# Altium integrated library NSC Power Mgt Voltage Regulator.IntLib: 299 symbols (part 4 of 5)
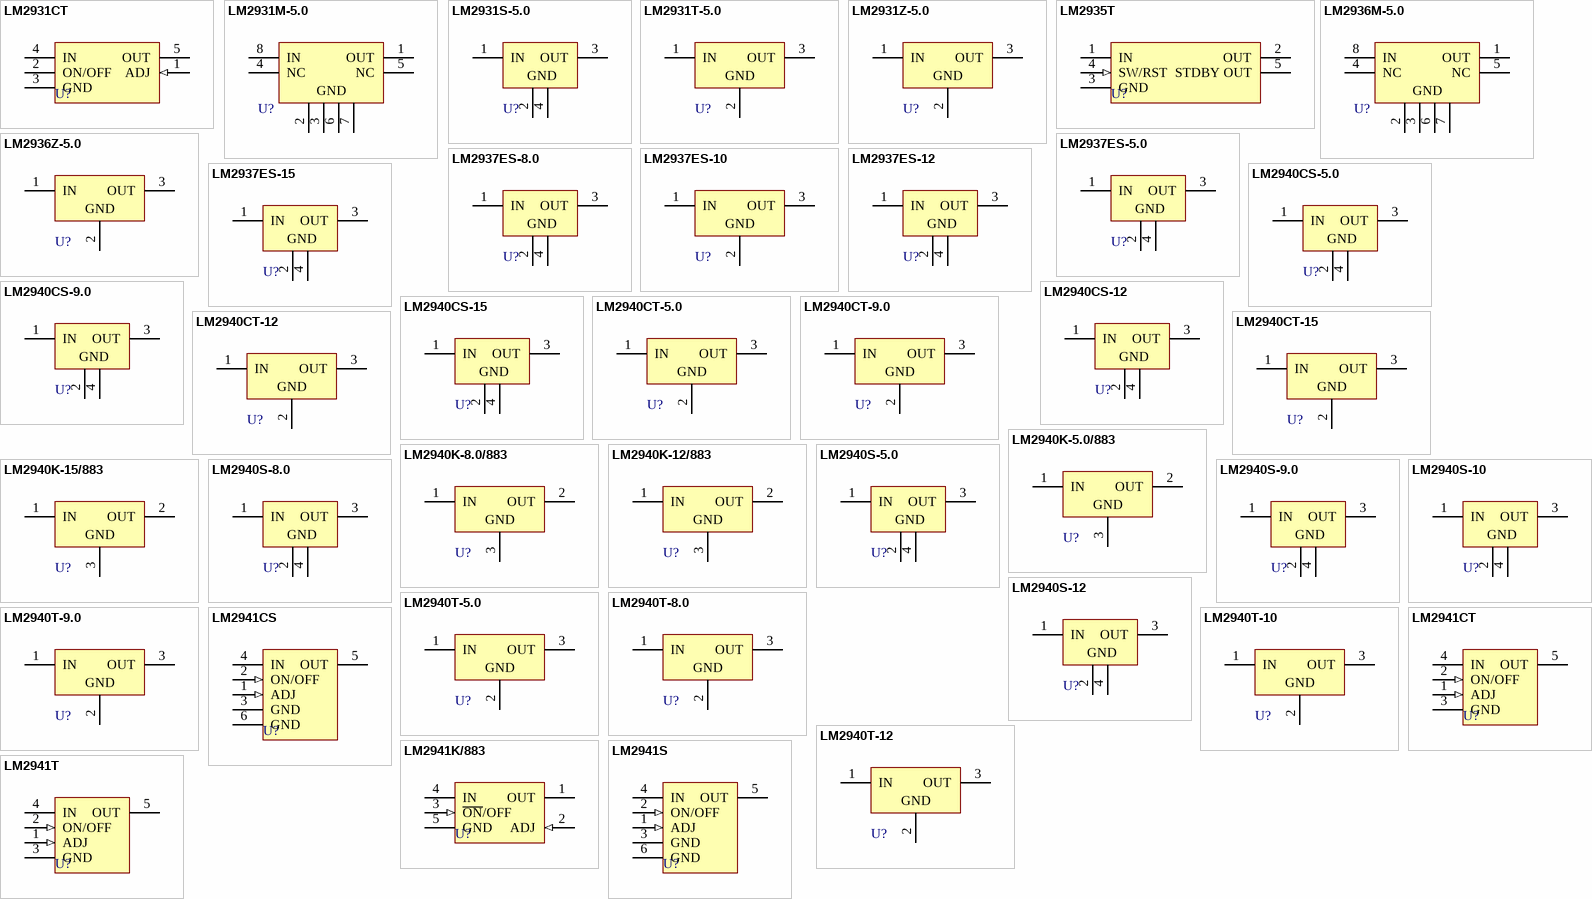
[diagram p10: symbols LM2931CT to LM2941T]

## LM2940T-10
designator U?
1A Low-Dropout Regulator; Note: Tab is connected to GND; Published: 15-Apr-2002; DatasheetVersion: Jun-1999; PackageVersion: 1995; PackageReference: T03B; Publisher: Altium Limited; PackageDescription: TO, Thru-Hole, Vertical, Heatsink Mounted; 3 In-Line Leads; Pitch 2.54 mm; ComponentLink1Description: Manufacturer Link; ComponentLink1URL: http://www.national.com/; ComponentLink2Description: Datasheet; ComponentLink2URL: http://www.national.com/ds.cgi/LM/LM2940.pdf; ComponentLink3Description: URL Link1; ComponentLink3URL: http://www.national.com/pf/LM/LM2940.html
footprint T03B (TO, Thru-Hole, Vertical, Heatsink Mounted; 3 In-Line Leads; Pitch 2.54 mm)
pins: 1 IN (power), 2 GND (power), 3 OUT (power)

## LM2940T-12
designator U?
1A Low-Dropout Regulator; Note: Tab is connected to GND; Published: 15-Apr-2002; DatasheetVersion: Jun-1999; PackageVersion: 1995; PackageReference: T03B; Publisher: Altium Limited; PackageDescription: TO, Thru-Hole, Vertical, Heatsink Mounted; 3 In-Line Leads; Pitch 2.54 mm; ComponentLink1Description: Manufacturer Link; ComponentLink1URL: http://www.national.com/; ComponentLink2Description: Datasheet; ComponentLink2URL: http://www.national.com/ds.cgi/LM/LM2940.pdf; ComponentLink3Description: URL Link1; ComponentLink3URL: http://www.national.com/pf/LM/LM2940.html
footprint T03B (TO, Thru-Hole, Vertical, Heatsink Mounted; 3 In-Line Leads; Pitch 2.54 mm)
pins: 1 IN (power), 2 GND (power), 3 OUT (power)

## LM2941CS
designator U?
1A Dropout Adjustable Regulator; Note: Tab is connected to GND; Published: 15-Apr-2002; DatasheetVersion: Jun-1999; PackageReference: TS5B; Publisher: Altium Limited; PackageDescription: D2-PAK; 5 Leads; Body 14.4 (inc. leads) x 10.4 mm (LxW max); ComponentLink1Description: Manufacturer Link; ComponentLink1URL: http://www.national.com/; ComponentLink2Description: Datasheet; ComponentLink2URL: http://www.national.com/ds.cgi/LM/LM2941.pdf; ComponentLink3Description: URL Link1; ComponentLink3URL: http://www.national.com/pf/LM/LM2941C.html
footprint TS5B (D2-PAK; 5 Leads; Body 14.4 (inc. leads) x 10.4 mm (LxW max))
pins: 1 ADJ (in), 2 ON/OFF (in), 3 GND (power), 4 IN (power), 5 OUT (power), 6 GND (power)

## LM2941CT
designator U?
1A Dropout Adjustable Regulator; Note: Tab is connected to GND; Published: 15-Apr-2002; DatasheetVersion: Jun-1999; PackageVersion: 2000; PackageReference: T05A; Publisher: Altium Limited; PackageDescription: TO, Thru-Hole, Vertical, Heatsink Mounted; 5 In-Line Leads; Pitch 1.70 mm; Code_JEDEC: TS-001-AA; ComponentLink1Description: Manufacturer Link; ComponentLink1URL: http://www.national.com/; ComponentLink2Description: Datasheet; ComponentLink2URL: http://www.national.com/ds.cgi/LM/LM2941.pdf; ComponentLink3Description: URL Link1; ComponentLink3URL: http://www.national.com/pf/LM/LM2941C.html
footprint T05A (TO, Thru-Hole, Vertical, Heatsink Mounted; 5 In-Line Leads; Pitch 1.70 mm)
pins: 1 ADJ (in), 2 ON/OFF (in), 3 GND (power), 4 IN (power), 5 OUT (power)

## LM2941K/883
designator U?
1A Low-Dropout Adjustable Regulator; Note: Case is connected to GND; ComponentAvailability: Obsolete; Published: 15-Apr-2002; DatasheetVersion: Jan-1995; PackageVersion: 2000; PackageReference: K04A; Publisher: Altium Limited; PackageDescription: Oval Flange Mount; 4 Leads; Pin Circle Dia. 11.94 mm; Lead Dia. 1.09 mm (max); ComponentLink1Description: Manufacturer Link; ComponentLink1URL: http://www.national.com/; ComponentLink2Description: Discontinuation Notice; ComponentLink2URL: http://www.national.com/obs/obsolescence.txt; ComponentLink3Description: URL Link1; ComponentLink3URL: http://www.national.com/pf/LM/LM2941.html
footprint K04A (Oval Flange Mount; 4 Leads; Pin Circle Dia. 11.94 mm; Lead Dia. 1.09 mm (max))
pins: 1 OUT (power), 2 ADJ (in), 3 ~{ON}/OFF (in), 4 IN (power), 5 GND (power)

## LM2941S
designator U?
1A Dropout Adjustable Regulator; Note: Tab is connected to GND; Published: 15-Apr-2002; DatasheetVersion: Jun-1999; PackageReference: TS5B; Publisher: Altium Limited; PackageDescription: D2-PAK; 5 Leads; Body 14.4 (inc. leads) x 10.4 mm (LxW max); ComponentLink1Description: Manufacturer Link; ComponentLink1URL: http://www.national.com/; ComponentLink2Description: Datasheet; ComponentLink2URL: http://www.national.com/ds.cgi/LM/LM2941.pdf; ComponentLink3Description: URL Link1; ComponentLink3URL: http://www.national.com/pf/LM/LM2941.html
footprint TS5B (D2-PAK; 5 Leads; Body 14.4 (inc. leads) x 10.4 mm (LxW max))
pins: 1 ADJ (in), 2 ON/OFF (in), 3 GND (power), 4 IN (power), 5 OUT (power), 6 GND (power)

## LM2941T
designator U?
1A Dropout Adjustable Regulator; Note: Tab is connected to GND; Published: 15-Apr-2002; DatasheetVersion: Jun-1999; PackageVersion: 2000; PackageReference: T05A; Publisher: Altium Limited; PackageDescription: TO, Thru-Hole, Vertical, Heatsink Mounted; 5 In-Line Leads; Pitch 1.70 mm; Code_JEDEC: TS-001-AA; ComponentLink1Description: Manufacturer Link; ComponentLink1URL: http://www.national.com/; ComponentLink2Description: Datasheet; ComponentLink2URL: http://www.national.com/ds.cgi/LM/LM2941.pdf; ComponentLink3Description: URL Link1; ComponentLink3URL: http://www.national.com/pf/LM/LM2941.html
footprint T05A (TO, Thru-Hole, Vertical, Heatsink Mounted; 5 In-Line Leads; Pitch 1.70 mm)
pins: 1 ADJ (in), 2 ON/OFF (in), 3 GND (power), 4 IN (power), 5 OUT (power)

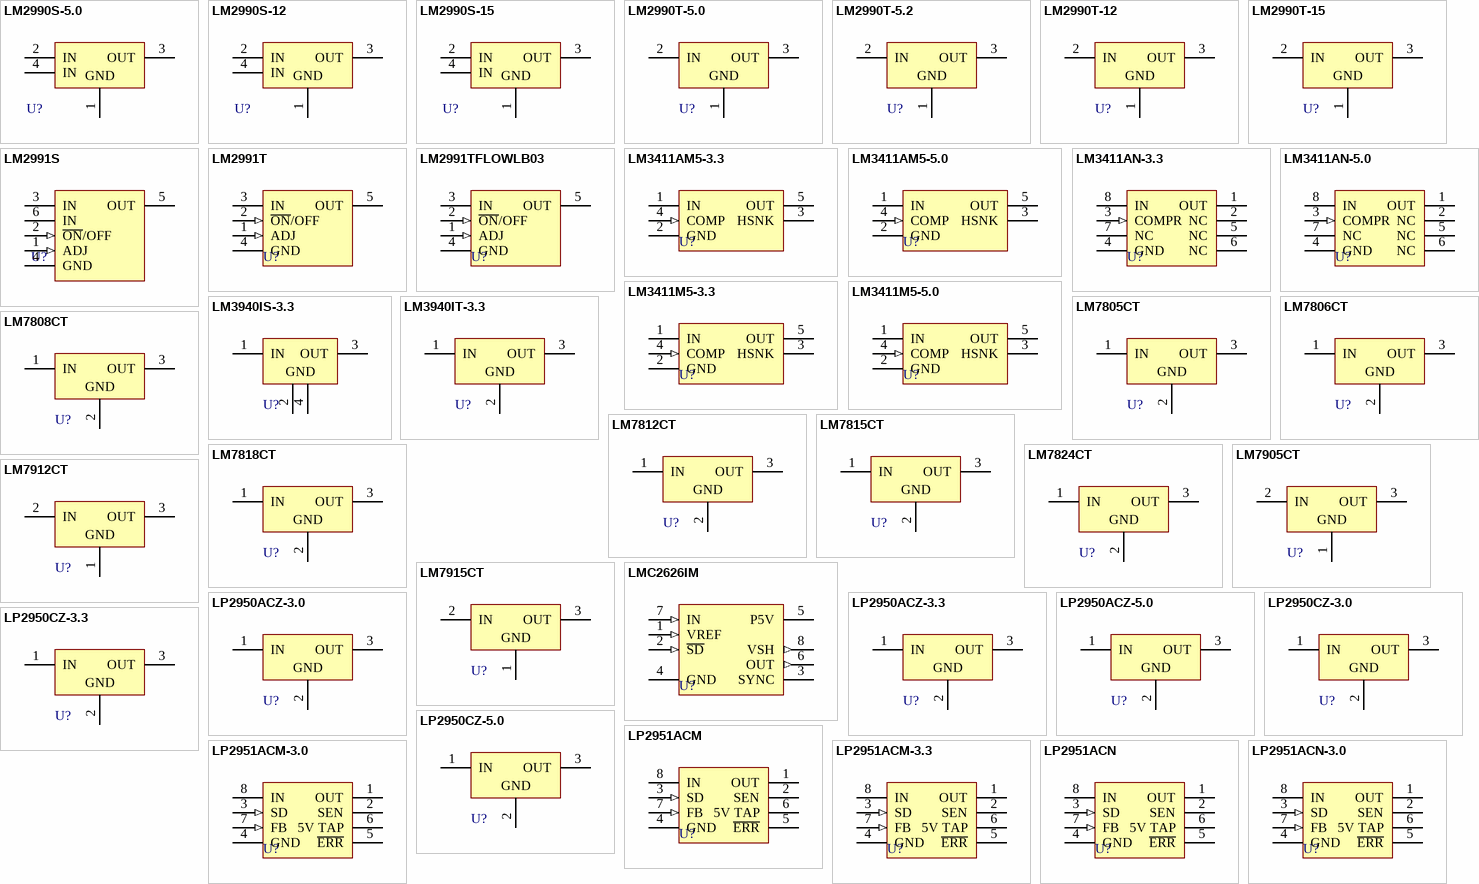
[diagram p5: symbols LM2990S-5.0 to LP2951ACN-3.0]

## LM2990S-5.0
designator U?
Negative Low-Dropout Regulator; Note: Tab is connected to Input; Published: 15-Apr-2002; DatasheetVersion: Jun-1999; PackageReference: TS3B; Publisher: Altium Limited; PackageDescription: D2-PAK; 3 Leads; Body 14.4 (inc. leads) x 10.4 mm (LxW max); ComponentLink1Description: Manufacturer Link; ComponentLink1URL: http://www.national.com/; ComponentLink2Description: Datasheet; ComponentLink2URL: http://www.national.com/ds.cgi/LM/LM2990.pdf; ComponentLink3Description: URL Link1; ComponentLink3URL: http://www.national.com/pf/LM/LM2990.html
footprint TS3B (D2-PAK; 3 Leads; Body 14.4 (inc. leads) x 10.4 mm (LxW max))
pins: 1 GND (power), 2 IN (power), 3 OUT (power), 4 IN (power)

## LM2990S-12
designator U?
Negative Low-Dropout Regulator; Note: Tab is connected to Input; Published: 15-Apr-2002; DatasheetVersion: Jun-1999; PackageReference: TS3B; Publisher: Altium Limited; PackageDescription: D2-PAK; 3 Leads; Body 14.4 (inc. leads) x 10.4 mm (LxW max); ComponentLink1Description: Manufacturer Link; ComponentLink1URL: http://www.national.com/; ComponentLink2Description: Datasheet; ComponentLink2URL: http://www.national.com/ds.cgi/LM/LM2990.pdf; ComponentLink3Description: URL Link1; ComponentLink3URL: http://www.national.com/pf/LM/LM2990.html
footprint TS3B (D2-PAK; 3 Leads; Body 14.4 (inc. leads) x 10.4 mm (LxW max))
pins: 1 GND (power), 2 IN (power), 3 OUT (power), 4 IN (power)

## LM2990S-15
designator U?
Negative Low-Dropout Regulator; Note: Tab is connected to Input; Published: 15-Apr-2002; DatasheetVersion: Jun-1999; PackageReference: TS3B; Publisher: Altium Limited; PackageDescription: D2-PAK; 3 Leads; Body 14.4 (inc. leads) x 10.4 mm (LxW max); ComponentLink1Description: Manufacturer Link; ComponentLink1URL: http://www.national.com/; ComponentLink2Description: Datasheet; ComponentLink2URL: http://www.national.com/ds.cgi/LM/LM2990.pdf; ComponentLink3Description: URL Link1; ComponentLink3URL: http://www.national.com/pf/LM/LM2990.html
footprint TS3B (D2-PAK; 3 Leads; Body 14.4 (inc. leads) x 10.4 mm (LxW max))
pins: 1 GND (power), 2 IN (power), 3 OUT (power), 4 IN (power)

## LM2990T-5.0
designator U?
Negative Low-Dropout Regulator; Note: Tab is connected to Input; Published: 15-Apr-2002; DatasheetVersion: Jun-1999; PackageVersion: 1995; PackageReference: T03B; Publisher: Altium Limited; PackageDescription: TO, Thru-Hole, Vertical, Heatsink Mounted; 3 In-Line Leads; Pitch 2.54 mm; ComponentLink1Description: Manufacturer Link; ComponentLink1URL: http://www.national.com/; ComponentLink2Description: Datasheet; ComponentLink2URL: http://www.national.com/ds.cgi/LM/LM2990.pdf; ComponentLink3Description: URL Link1; ComponentLink3URL: http://www.national.com/pf/LM/LM2990.html
footprint T03B (TO, Thru-Hole, Vertical, Heatsink Mounted; 3 In-Line Leads; Pitch 2.54 mm)
pins: 1 GND (power), 2 IN (power), 3 OUT (power)

## LM2990T-5.2
designator U?
Negative Low-Dropout Regulator; Note: Tab is connected to Input; Published: 15-Apr-2002; DatasheetVersion: Jun-1999; PackageVersion: 1995; PackageReference: T03B; Publisher: Altium Limited; PackageDescription: TO, Thru-Hole, Vertical, Heatsink Mounted; 3 In-Line Leads; Pitch 2.54 mm; ComponentLink1Description: Manufacturer Link; ComponentLink1URL: http://www.national.com/; ComponentLink2Description: Datasheet; ComponentLink2URL: http://www.national.com/ds.cgi/LM/LM2990.pdf; ComponentLink3Description: URL Link1; ComponentLink3URL: http://www.national.com/pf/LM/LM2990.html
footprint T03B (TO, Thru-Hole, Vertical, Heatsink Mounted; 3 In-Line Leads; Pitch 2.54 mm)
pins: 1 GND (power), 2 IN (power), 3 OUT (power)

## LM2990T-12
designator U?
Negative Low-Dropout Regulator; Note: Tab is connected to Input; Published: 15-Apr-2002; DatasheetVersion: Jun-1999; PackageVersion: 1995; PackageReference: T03B; Publisher: Altium Limited; PackageDescription: TO, Thru-Hole, Vertical, Heatsink Mounted; 3 In-Line Leads; Pitch 2.54 mm; ComponentLink1Description: Manufacturer Link; ComponentLink1URL: http://www.national.com/; ComponentLink2Description: Datasheet; ComponentLink2URL: http://www.national.com/ds.cgi/LM/LM2990.pdf; ComponentLink3Description: URL Link1; ComponentLink3URL: http://www.national.com/pf/LM/LM2990.html
footprint T03B (TO, Thru-Hole, Vertical, Heatsink Mounted; 3 In-Line Leads; Pitch 2.54 mm)
pins: 1 GND (power), 2 IN (power), 3 OUT (power)

## LM2990T-15
designator U?
Negative Low-Dropout Regulator; Note: Tab is connected to Input; Published: 15-Apr-2002; DatasheetVersion: Jun-1999; PackageVersion: 1995; PackageReference: T03B; Publisher: Altium Limited; PackageDescription: TO, Thru-Hole, Vertical, Heatsink Mounted; 3 In-Line Leads; Pitch 2.54 mm; ComponentLink1Description: Manufacturer Link; ComponentLink1URL: http://www.national.com/; ComponentLink2Description: Datasheet; ComponentLink2URL: http://www.national.com/ds.cgi/LM/LM2990.pdf; ComponentLink3Description: URL Link1; ComponentLink3URL: http://www.national.com/pf/LM/LM2990.html
footprint T03B (TO, Thru-Hole, Vertical, Heatsink Mounted; 3 In-Line Leads; Pitch 2.54 mm)
pins: 1 GND (power), 2 IN (power), 3 OUT (power)

## LM2991S
designator U?
Negative Low-Dropout Adjustable Regulator; Note: Tab is connected to Input; Published: 15-Apr-2002; DatasheetVersion: May-1999; PackageReference: TS5B; Publisher: Altium Limited; PackageDescription: D2-PAK; 5 Leads; Body 14.4 (inc. leads) x 10.4 mm (LxW max); ComponentLink1Description: Manufacturer Link; ComponentLink1URL: http://www.national.com/; ComponentLink2Description: Datasheet; ComponentLink2URL: http://www.national.com/ds.cgi/LM/LM2991.pdf; ComponentLink3Description: URL Link1; ComponentLink3URL: http://www.national.com/pf/LM/LM2991.html
footprint TS5B (D2-PAK; 5 Leads; Body 14.4 (inc. leads) x 10.4 mm (LxW max))
pins: 1 ADJ (in), 2 ~{ON}/OFF (in), 3 IN (power), 4 GND (power), 5 OUT (power), 6 IN (power)

## LM2991T
designator U?
Negative Low-Dropout Adjustable Regulator; Note: Tab is connected to Input; Published: 15-Apr-2002; DatasheetVersion: May-1999; PackageVersion: 2000; PackageReference: T05A; Publisher: Altium Limited; PackageDescription: TO, Thru-Hole, Vertical, Heatsink Mounted; 5 In-Line Leads; Pitch 1.70 mm; Code_JEDEC: TS-001-AA; ComponentLink1Description: Manufacturer Link; ComponentLink1URL: http://www.national.com/; ComponentLink2Description: Datasheet; ComponentLink2URL: http://www.national.com/ds.cgi/LM/LM2991.pdf; ComponentLink3Description: URL Link1; ComponentLink3URL: http://www.national.com/pf/LM/LM2991.html
footprint T05A (TO, Thru-Hole, Vertical, Heatsink Mounted; 5 In-Line Leads; Pitch 1.70 mm)
pins: 1 ADJ (in), 2 ~{ON}/OFF (in), 3 IN (power), 4 GND (power), 5 OUT (power)

## LM2991TFLOWLB03
designator U?
Negative Low-Dropout Adjustable Regulator; Note: Tab is connected to Input; Published: 15-Apr-2002; DatasheetVersion: May-1999; PackageVersion: 2000; PackageReference: T05D; Publisher: Altium Limited; PackageDescription: TO, Thru-Hole, Vertical, Heatsink Mounted; 5 Bent Staggered Leads; Pitch 1.7 mm; ComponentLink1Description: Manufacturer Link; ComponentLink1URL: http://www.national.com/; ComponentLink2Description: Datasheet; ComponentLink2URL: http://www.national.com/ds.cgi/LM/LM2991.pdf; ComponentLink3Description: URL Link1; ComponentLink3URL: http://www.national.com/pf/LM/LM2991.html
footprint T05D (TO, Thru-Hole, Vertical, Heatsink Mounted; 5 Bent Staggered Leads; Pitch 1.7 mm)
pins: 1 ADJ (in), 2 ~{ON}/OFF (in), 3 IN (power), 4 GND (power), 5 OUT (power)

## LM3411AM5-3.3
designator U?
Precision Secondary Regulator / Driver; Note: Pin 3 NC, connect to board for heat transfer; Published: 15-Apr-2002; DatasheetVersion: Dec-1999; PackageVersion: Aug-1999; PackageReference: MA05B; Publisher: Altium Limited; PackageDescription: SOT-23/SC-74A; 5 Leads; Body 3 x 3 mm, inc. leads (LxW max); ComponentLink1Description: Manufacturer Link; ComponentLink1URL: http://www.national.com/; ComponentLink2Description: Datasheet; ComponentLink2URL: http://www.national.com/ds.cgi/LM/LM3411.pdf; ComponentLink3Description: URL Link1; ComponentLink3URL: http://www.national.com/pf/LM/LM3411.html
footprint MA05B (SOT-23/SC-74A; 5 Leads; Body 3 x 3 mm, inc. leads (LxW max))
pins: 1 IN (power), 2 GND (power), 3 HSNK, 4 COMP (in), 5 OUT (power)

## LM3411AM5-5.0
designator U?
Precision Secondary Regulator / Driver; Note: Pin 3 NC, connect to board for heat transfer; Published: 15-Apr-2002; DatasheetVersion: Dec-1999; PackageVersion: Aug-1999; PackageReference: MA05B; Publisher: Altium Limited; PackageDescription: SOT-23/SC-74A; 5 Leads; Body 3 x 3 mm, inc. leads (LxW max); ComponentLink1Description: Manufacturer Link; ComponentLink1URL: http://www.national.com/; ComponentLink2Description: Datasheet; ComponentLink2URL: http://www.national.com/ds.cgi/LM/LM3411.pdf; ComponentLink3Description: URL Link1; ComponentLink3URL: http://www.national.com/pf/LM/LM3411.html
footprint MA05B (SOT-23/SC-74A; 5 Leads; Body 3 x 3 mm, inc. leads (LxW max))
pins: 1 IN (power), 2 GND (power), 3 HSNK, 4 COMP (in), 5 OUT (power)

## LM3411AN-3.3
designator U?
Precision Secondary Regulation / Driver; ComponentAvailability: Obsolete; Published: 15-Apr-2002; LatestRevisionDate: 06-Jun-2005; LatestRevisionNote: Stylized 3D Model Added.; DatasheetVersion: Jan-1995; PackageVersion: Sep-1997; PackageReference: N08E; Publisher: Altium Limited; PackageDescription: DIP; 8 Leads; Row Spacing 7.62 mm; Pitch 2.54 mm; ComponentLink1Description: Manufacturer Link; ComponentLink1URL: http://www.national.com/; ComponentLink2Description: Discontinuation Notice; ComponentLink2URL: http://www.national.com/obs/obsolescence.txt; ComponentLink3Description: URL Link1; ComponentLink3URL: http://www.national.com/pf/LM/LM3411.html
footprint N08E (DIP; 8 Leads; Row Spacing 7.62 mm; Pitch 2.54 mm)
3D model N08E (DIP; 8 Leads; Row Spacing 7.62 mm; Pitch 2.54 mm)
pins: 1 OUT (power), 2 NC, 3 COMPR (in), 4 GND (power), 5 NC, 6 NC, 7 NC, 8 IN (power)

## LM3411AN-5.0
designator U?
Precision Secondary Regulation / Driver; ComponentAvailability: Obsolete; Published: 15-Apr-2002; LatestRevisionDate: 06-Jun-2005; LatestRevisionNote: Stylized 3D Model Added.; DatasheetVersion: Jan-1995; PackageVersion: Sep-1997; PackageReference: N08E; Publisher: Altium Limited; PackageDescription: DIP; 8 Leads; Row Spacing 7.62 mm; Pitch 2.54 mm; ComponentLink1Description: Manufacturer Link; ComponentLink1URL: http://www.national.com/; ComponentLink2Description: Discontinuation Notice; ComponentLink2URL: http://www.national.com/obs/obsolescence.txt; ComponentLink3Description: URL Link1; ComponentLink3URL: http://www.national.com/pf/LM/LM3411.html
footprint N08E (DIP; 8 Leads; Row Spacing 7.62 mm; Pitch 2.54 mm)
3D model N08E (DIP; 8 Leads; Row Spacing 7.62 mm; Pitch 2.54 mm)
pins: 1 OUT (power), 2 NC, 3 COMPR (in), 4 GND (power), 5 NC, 6 NC, 7 NC, 8 IN (power)

## LM3411M5-3.3
designator U?
Precision Secondary Regulator / Driver; Note: Pin 3 NC, connect to board for heat transfer; Published: 15-Apr-2002; DatasheetVersion: Dec-1999; PackageVersion: Aug-1999; PackageReference: MA05B; Publisher: Altium Limited; PackageDescription: SOT-23/SC-74A; 5 Leads; Body 3 x 3 mm, inc. leads (LxW max); ComponentLink1Description: Manufacturer Link; ComponentLink1URL: http://www.national.com/; ComponentLink2Description: Datasheet; ComponentLink2URL: http://www.national.com/ds.cgi/LM/LM3411.pdf; ComponentLink3Description: URL Link1; ComponentLink3URL: http://www.national.com/pf/LM/LM3411.html
footprint MA05B (SOT-23/SC-74A; 5 Leads; Body 3 x 3 mm, inc. leads (LxW max))
pins: 1 IN (power), 2 GND (power), 3 HSNK, 4 COMP (in), 5 OUT (power)

## LM3411M5-5.0
designator U?
Precision Secondary Regulator / Driver; Note: Pin 3 NC, connect to board for heat transfer; Published: 15-Apr-2002; DatasheetVersion: Dec-1999; PackageVersion: Aug-1999; PackageReference: MA05B; Publisher: Altium Limited; PackageDescription: SOT-23/SC-74A; 5 Leads; Body 3 x 3 mm, inc. leads (LxW max); ComponentLink1Description: Manufacturer Link; ComponentLink1URL: http://www.national.com/; ComponentLink2Description: Datasheet; ComponentLink2URL: http://www.national.com/ds.cgi/LM/LM3411.pdf; ComponentLink3Description: URL Link1; ComponentLink3URL: http://www.national.com/pf/LM/LM3411.html
footprint MA05B (SOT-23/SC-74A; 5 Leads; Body 3 x 3 mm, inc. leads (LxW max))
pins: 1 IN (power), 2 GND (power), 3 HSNK, 4 COMP (in), 5 OUT (power)

## LM3940IS-3.3
designator U?
1A Low-Dropout Regulator For 5V to 3.3V Conversion; Note: Tab is connected to GND; Published: 15-Apr-2002; DatasheetVersion: Apr-1998; PackageReference: TS3B; Publisher: Altium Limited; PackageDescription: D2-PAK; 3 Leads; Body 14.4 (inc. leads) x 10.4 mm (LxW max); ComponentLink1Description: Manufacturer Link; ComponentLink1URL: http://www.national.com/; ComponentLink2Description: Datasheet; ComponentLink2URL: http://www.national.com/ds.cgi/LM/LM3940.pdf; ComponentLink3Description: URL Link1; ComponentLink3URL: http://www.national.com/pf/LM/LM3940.html
footprint TS3B (D2-PAK; 3 Leads; Body 14.4 (inc. leads) x 10.4 mm (LxW max))
pins: 1 IN (power), 2 GND (power), 3 OUT (power), 4 GND (power)

## LM3940IT-3.3
designator U?
1A Low-Dropout Regulator For 5V to 3.3V Conversion; Note: Tab is connected to GND; Published: 15-Apr-2002; DatasheetVersion: Apr-1998; PackageVersion: 1995; PackageReference: T03B; Publisher: Altium Limited; PackageDescription: TO, Thru-Hole, Vertical, Heatsink Mounted; 3 In-Line Leads; Pitch 2.54 mm; ComponentLink1Description: Manufacturer Link; ComponentLink1URL: http://www.national.com/; ComponentLink2Description: Datasheet; ComponentLink2URL: http://www.national.com/ds.cgi/LM/LM3940.pdf; ComponentLink3Description: URL Link1; ComponentLink3URL: http://www.national.com/pf/LM/LM3940.html
footprint T03B (TO, Thru-Hole, Vertical, Heatsink Mounted; 3 In-Line Leads; Pitch 2.54 mm)
pins: 1 IN (power), 2 GND (power), 3 OUT (power)

## LM7805CT
designator U?
Series 3-Terminal Positive Regulator; Note: Tab is connected to GND; Published: 15-Apr-2002; DatasheetVersion: May-1999; PackageVersion: 1995; PackageReference: T03B; Publisher: Altium Limited; PackageDescription: TO, Thru-Hole, Vertical, Heatsink Mounted; 3 In-Line Leads; Pitch 2.54 mm; ComponentLink1Description: Manufacturer Link; ComponentLink1URL: http://www.national.com/; ComponentLink2Description: Datasheet; ComponentLink2URL: http://www.national.com/ds.cgi/LM/LM7512C.pdf; ComponentLink3Description: URL Link1; ComponentLink3URL: http://www.national.com/pf/LM/LM7805C.html
footprint T03B (TO, Thru-Hole, Vertical, Heatsink Mounted; 3 In-Line Leads; Pitch 2.54 mm)
pins: 1 IN (power), 2 GND (power), 3 OUT (power)

## LM7806CT
designator U?
Series 3-Terminal Positive Regulator; Note: Tab is connected to GND; ComponentAvailability: Obsolete; Published: 15-Apr-2002; DatasheetVersion: May-1999; PackageVersion: 1995; PackageReference: T03B; Publisher: Altium Limited; PackageDescription: TO, Thru-Hole, Vertical, Heatsink Mounted; 3 In-Line Leads; Pitch 2.54 mm; ComponentLink1Description: Manufacturer Link; ComponentLink1URL: http://www.national.com/; ComponentLink2Description: Discontinuation Notice; ComponentLink2URL: http://www.national.com/obs/obsolescence.txt
footprint T03B (TO, Thru-Hole, Vertical, Heatsink Mounted; 3 In-Line Leads; Pitch 2.54 mm)
pins: 1 IN (power), 2 GND (power), 3 OUT (power)

## LM7808CT
designator U?
Series 3-Terminal Positive Regulator; Note: Tab is connected to GND; Published: 15-Apr-2002; DatasheetVersion: May-1999; PackageVersion: 1995; PackageReference: T03B; Publisher: Altium Limited; PackageDescription: TO, Thru-Hole, Vertical, Heatsink Mounted; 3 In-Line Leads; Pitch 2.54 mm; ComponentLink1Description: Manufacturer Link; ComponentLink1URL: http://www.national.com/; ComponentLink2Description: Datasheet; ComponentLink2URL: http://www.national.com/ds.cgi/LM/LM340.pdf
footprint T03B (TO, Thru-Hole, Vertical, Heatsink Mounted; 3 In-Line Leads; Pitch 2.54 mm)
pins: 1 IN (power), 2 GND (power), 3 OUT (power)

## LM7812CT
designator U?
Series 3-Terminal Positive Regulator; Note: Tab is connected to GND; Published: 15-Apr-2002; DatasheetVersion: May-1999; PackageVersion: 1995; PackageReference: T03B; Publisher: Altium Limited; PackageDescription: TO, Thru-Hole, Vertical, Heatsink Mounted; 3 In-Line Leads; Pitch 2.54 mm; ComponentLink1Description: Manufacturer Link; ComponentLink1URL: http://www.national.com/; ComponentLink2Description: Datasheet; ComponentLink2URL: http://www.national.com/ds.cgi/LM/LM7512C.pdf
footprint T03B (TO, Thru-Hole, Vertical, Heatsink Mounted; 3 In-Line Leads; Pitch 2.54 mm)
pins: 1 IN (power), 2 GND (power), 3 OUT (power)

## LM7815CT
designator U?
Series 3-Terminal Positive Regulator; Note: Tab is connected to GND; Published: 15-Apr-2002; DatasheetVersion: May-1999; PackageVersion: 1995; PackageReference: T03B; Publisher: Altium Limited; PackageDescription: TO, Thru-Hole, Vertical, Heatsink Mounted; 3 In-Line Leads; Pitch 2.54 mm; ComponentLink1Description: Manufacturer Link; ComponentLink1URL: http://www.national.com/; ComponentLink2Description: Datasheet; ComponentLink2URL: http://www.national.com/ds.cgi/LM/LM7512C.pdf; ComponentLink3Description: URL Link1; ComponentLink3URL: http://www.national.com/pf/LM/LM7815C.html
footprint T03B (TO, Thru-Hole, Vertical, Heatsink Mounted; 3 In-Line Leads; Pitch 2.54 mm)
pins: 1 IN (power), 2 GND (power), 3 OUT (power)

## LM7818CT
designator U?
Series 3-Terminal Positive Regulator; Note: Tab is connected to GND; ComponentAvailability: Obsolete; Published: 15-Apr-2002; DatasheetVersion: May-1999; PackageVersion: 1995; PackageReference: T03B; Publisher: Altium Limited; PackageDescription: TO, Thru-Hole, Vertical, Heatsink Mounted; 3 In-Line Leads; Pitch 2.54 mm; ComponentLink1Description: Manufacturer Link; ComponentLink1URL: http://www.national.com/; ComponentLink2Description: Discontinuation Notice; ComponentLink2URL: http://www.national.com/obs/obsolescence.txt
footprint T03B (TO, Thru-Hole, Vertical, Heatsink Mounted; 3 In-Line Leads; Pitch 2.54 mm)
pins: 1 IN (power), 2 GND (power), 3 OUT (power)

## LM7824CT
designator U?
Series 3-Terminal Positive Regulator; Note: Tab is connected to GND; ComponentAvailability: Obsolete; Published: 15-Apr-2002; DatasheetVersion: May-1999; PackageVersion: 1995; PackageReference: T03B; Publisher: Altium Limited; PackageDescription: TO, Thru-Hole, Vertical, Heatsink Mounted; 3 In-Line Leads; Pitch 2.54 mm; ComponentLink1Description: Manufacturer Link; ComponentLink1URL: http://www.national.com/; ComponentLink2Description: Discontinuation Notice; ComponentLink2URL: http://www.national.com/obs/obsolescence.txt
footprint T03B (TO, Thru-Hole, Vertical, Heatsink Mounted; 3 In-Line Leads; Pitch 2.54 mm)
pins: 1 IN (power), 2 GND (power), 3 OUT (power)

## LM7905CT
designator U?
3-Terminal Negative Regulator; Note: Tab is connected to Input; Published: 15-Apr-2002; DatasheetVersion: Jun-1999; PackageVersion: 1995; PackageReference: T03B; Publisher: Altium Limited; PackageDescription: TO, Thru-Hole, Vertical, Heatsink Mounted; 3 In-Line Leads; Pitch 2.54 mm; ComponentLink1Description: Manufacturer Link; ComponentLink1URL: http://www.national.com/; ComponentLink2Description: Datasheet; ComponentLink2URL: http://www.national.com/ds.cgi/LM/LM7905.pdf; ComponentLink3Description: URL Link1; ComponentLink3URL: http://www.national.com/pf/LM/LM7905.html
footprint T03B (TO, Thru-Hole, Vertical, Heatsink Mounted; 3 In-Line Leads; Pitch 2.54 mm)
pins: 1 GND (power), 2 IN (power), 3 OUT (power)

## LM7912CT
designator U?
3-Terminal Negative Regulator; Note: Tab is connected to Input; Published: 15-Apr-2002; DatasheetVersion: Jun-1999; PackageVersion: 1995; PackageReference: T03B; Publisher: Altium Limited; PackageDescription: TO, Thru-Hole, Vertical, Heatsink Mounted; 3 In-Line Leads; Pitch 2.54 mm; ComponentLink1Description: Manufacturer Link; ComponentLink1URL: http://www.national.com/; ComponentLink2Description: Datasheet; ComponentLink2URL: http://www.national.com/ds.cgi/LM/LM7905.pdf; ComponentLink3Description: URL Link1; ComponentLink3URL: http://www.national.com/pf/LM/LM7912.html
footprint T03B (TO, Thru-Hole, Vertical, Heatsink Mounted; 3 In-Line Leads; Pitch 2.54 mm)
pins: 1 GND (power), 2 IN (power), 3 OUT (power)

## LM7915CT
designator U?
3-Terminal Negative Regulator; Note: Tab is connected to Input; Published: 15-Apr-2002; DatasheetVersion: Jun-1999; PackageVersion: 1995; PackageReference: T03B; Publisher: Altium Limited; PackageDescription: TO, Thru-Hole, Vertical, Heatsink Mounted; 3 In-Line Leads; Pitch 2.54 mm; ComponentLink1Description: Manufacturer Link; ComponentLink1URL: http://www.national.com/; ComponentLink2Description: Datasheet; ComponentLink2URL: http://www.national.com/ds.cgi/LM/LM7905.pdf; ComponentLink3Description: URL Link1; ComponentLink3URL: http://www.national.com/pf/LM/LM7915.html
footprint T03B (TO, Thru-Hole, Vertical, Heatsink Mounted; 3 In-Line Leads; Pitch 2.54 mm)
pins: 1 GND (power), 2 IN (power), 3 OUT (power)

## LMC2626IM
designator U?
CMOS LDOR/Buffer Chip for Row Inversion Flat Panel Display Systems; ComponentAvailability: Obsolete; Published: 15-Apr-2002; LatestRevisionDate: 13-Apr-2006; LatestRevisionNote: IPC-7351 Footprint Added.; DatasheetVersion: Nov-1995; PackageVersion: Sep-1997; PackageReference: M08A; Publisher: Altium Limited; PackageDescription: 8-Pin Small Outline Integrated Circuit 1.27 mm Pitch; Code_JEDEC: MS-012-AA; Code_IPC: SOIC127P600-8; ComponentLink1Description: Manufacturer Link; ComponentLink1URL: http://www.national.com/; ComponentLink2Description: Discontinuation Notice; ComponentLink2URL: http://www.national.com/obs/obsolescence.txt; ComponentLink3Description: URL Link1; ComponentLink3URL: http://www.national.com/pf/LM/LMC2626.html
footprint M08A_N (SOIC, 8-Leads, Body 4.9x3.9mm, Pitch 1.27mm, IPC Medium Density)
footprint M08A_L (SOIC, 8-Leads, Body 4.9x3.9mm, Pitch 1.27mm, IPC High Density)
footprint M08A_M (SOIC, 8-Leads, Body 4.9x3.9mm, Pitch 1.27mm, IPC Low Density)
3D model M08A (8-Pin Small Outline Integrated Circuit 1.27 mm Pitch)
pins: 1 VREF (in), 2 ~{SD} (in), 3 SYNC, 4 GND (power), 5 P5V (power), 6 OUT (out), 7 IN (in), 8 VSH (out)

## LP2950ACZ-3.0
designator U?
Series of Adjustable Micropower Voltage Regulator; Published: 15-Apr-2002; DatasheetVersion: May-1999; PackageVersion: 2000; PackageReference: Z03A; Publisher: Altium Limited; PackageDescription: TO, Flat Index; 3 In-Line, Axial Leads; Body Dia. 4.6mm; Leads 0.53 x 0.39 mm (max); ComponentLink1Description: Manufacturer Link; ComponentLink1URL: http://www.national.com/; ComponentLink2Description: Datasheet; ComponentLink2URL: http://www.national.com/ds.cgi/LP/LP2950.pdf; ComponentLink3Description: URL Link1; ComponentLink3URL: http://www.national.com/pf/LP/LP2950.html
footprint Z03A (TO, Flat Index; 3 In-Line, Axial Leads; Body Dia. 4.6mm; Leads 0.53 x 0.39 mm (max))
pins: 1 IN (power), 2 GND (power), 3 OUT (power)

## LP2950ACZ-3.3
designator U?
Series of Adjustable Micropower Voltage Regulator; Published: 15-Apr-2002; DatasheetVersion: May-1999; PackageVersion: 2000; PackageReference: Z03A; Publisher: Altium Limited; PackageDescription: TO, Flat Index; 3 In-Line, Axial Leads; Body Dia. 4.6mm; Leads 0.53 x 0.39 mm (max); ComponentLink1Description: Manufacturer Link; ComponentLink1URL: http://www.national.com/; ComponentLink2Description: Datasheet; ComponentLink2URL: http://www.national.com/ds.cgi/LP/LP2950.pdf; ComponentLink3Description: URL Link1; ComponentLink3URL: http://www.national.com/pf/LP/LP2950.html
footprint Z03A (TO, Flat Index; 3 In-Line, Axial Leads; Body Dia. 4.6mm; Leads 0.53 x 0.39 mm (max))
pins: 1 IN (power), 2 GND (power), 3 OUT (power)

## LP2950ACZ-5.0
designator U?
Series of Adjustable Micropower Voltage Regulator; Published: 15-Apr-2002; DatasheetVersion: May-1999; PackageVersion: 2000; PackageReference: Z03A; Publisher: Altium Limited; PackageDescription: TO, Flat Index; 3 In-Line, Axial Leads; Body Dia. 4.6mm; Leads 0.53 x 0.39 mm (max); ComponentLink1Description: Manufacturer Link; ComponentLink1URL: http://www.national.com/; ComponentLink2Description: Datasheet; ComponentLink2URL: http://www.national.com/ds.cgi/LP/LP2950.pdf; ComponentLink3Description: URL Link1; ComponentLink3URL: http://www.national.com/pf/LP/LP2950.html
footprint Z03A (TO, Flat Index; 3 In-Line, Axial Leads; Body Dia. 4.6mm; Leads 0.53 x 0.39 mm (max))
pins: 1 IN (power), 2 GND (power), 3 OUT (power)

## LP2950CZ-3.0
designator U?
Series of Adjustable Micropower Voltage Regulator; Published: 15-Apr-2002; DatasheetVersion: May-1999; PackageVersion: 2000; PackageReference: Z03A; Publisher: Altium Limited; PackageDescription: TO, Flat Index; 3 In-Line, Axial Leads; Body Dia. 4.6mm; Leads 0.53 x 0.39 mm (max); ComponentLink1Description: Manufacturer Link; ComponentLink1URL: http://www.national.com/; ComponentLink2Description: Datasheet; ComponentLink2URL: http://www.national.com/ds.cgi/LP/LP2950.pdf; ComponentLink3Description: URL Link1; ComponentLink3URL: http://www.national.com/pf/LP/LP2950.html
footprint Z03A (TO, Flat Index; 3 In-Line, Axial Leads; Body Dia. 4.6mm; Leads 0.53 x 0.39 mm (max))
pins: 1 IN (power), 2 GND (power), 3 OUT (power)

## LP2950CZ-3.3
designator U?
Series of Adjustable Micropower Voltage Regulator; Published: 15-Apr-2002; DatasheetVersion: May-1999; PackageVersion: 2000; PackageReference: Z03A; Publisher: Altium Limited; PackageDescription: TO, Flat Index; 3 In-Line, Axial Leads; Body Dia. 4.6mm; Leads 0.53 x 0.39 mm (max); ComponentLink1Description: Manufacturer Link; ComponentLink1URL: http://www.national.com/; ComponentLink2Description: Datasheet; ComponentLink2URL: http://www.national.com/ds.cgi/LP/LP2950.pdf; ComponentLink3Description: URL Link1; ComponentLink3URL: http://www.national.com/pf/LP/LP2950.html
footprint Z03A (TO, Flat Index; 3 In-Line, Axial Leads; Body Dia. 4.6mm; Leads 0.53 x 0.39 mm (max))
pins: 1 IN (power), 2 GND (power), 3 OUT (power)

## LP2950CZ-5.0
designator U?
Series of Adjustable Micropower Voltage Regulator; Published: 15-Apr-2002; DatasheetVersion: May-1999; PackageVersion: 2000; PackageReference: Z03A; Publisher: Altium Limited; PackageDescription: TO, Flat Index; 3 In-Line, Axial Leads; Body Dia. 4.6mm; Leads 0.53 x 0.39 mm (max); ComponentLink1Description: Manufacturer Link; ComponentLink1URL: http://www.national.com/; ComponentLink2Description: Datasheet; ComponentLink2URL: http://www.national.com/ds.cgi/LP/LP2950.pdf; ComponentLink3Description: URL Link1; ComponentLink3URL: http://www.national.com/pf/LP/LP2950.html
footprint Z03A (TO, Flat Index; 3 In-Line, Axial Leads; Body Dia. 4.6mm; Leads 0.53 x 0.39 mm (max))
pins: 1 IN (power), 2 GND (power), 3 OUT (power)

## LP2951ACM
designator U?
Series of Adjustable Micropower Voltage Regulator; Published: 15-Apr-2002; LatestRevisionDate: 13-Apr-2006; LatestRevisionNote: IPC-7351 Footprint Added.; DatasheetVersion: May-1999; PackageVersion: Sep-1997; PackageReference: M08A; Publisher: Altium Limited; PackageDescription: 8-Pin Small Outline Integrated Circuit 1.27 mm Pitch; Code_JEDEC: MS-012-AA; Code_IPC: SOIC127P600-8; ComponentLink1Description: Manufacturer Link; ComponentLink1URL: http://www.national.com/; ComponentLink2Description: Datasheet; ComponentLink2URL: http://www.national.com/ds.cgi/LP/LP2950.pdf; ComponentLink3Description: URL Link1; ComponentLink3URL: http://www.national.com/pf/LP/LP2951.html
footprint M08A_N (SOIC, 8-Leads, Body 4.9x3.9mm, Pitch 1.27mm, IPC Medium Density)
footprint M08A_L (SOIC, 8-Leads, Body 4.9x3.9mm, Pitch 1.27mm, IPC High Density)
footprint M08A_M (SOIC, 8-Leads, Body 4.9x3.9mm, Pitch 1.27mm, IPC Low Density)
3D model M08A (8-Pin Small Outline Integrated Circuit 1.27 mm Pitch)
pins: 1 OUT (power), 2 SEN, 3 SD (in), 4 GND (power), 5 ~{ERR} (oc), 6 5V TAP, 7 FB (in), 8 IN (power)

## LP2951ACM-3.0
designator U?
Series of Adjustable Micropower Voltage Regulator; Published: 15-Apr-2002; LatestRevisionDate: 13-Apr-2006; LatestRevisionNote: IPC-7351 Footprint Added.; DatasheetVersion: May-1999; PackageVersion: Sep-1997; PackageReference: M08A; Publisher: Altium Limited; PackageDescription: 8-Pin Small Outline Integrated Circuit 1.27 mm Pitch; Code_JEDEC: MS-012-AA; Code_IPC: SOIC127P600-8; ComponentLink1Description: Manufacturer Link; ComponentLink1URL: http://www.national.com/; ComponentLink2Description: Datasheet; ComponentLink2URL: http://www.national.com/ds.cgi/LP/LP2950.pdf; ComponentLink3Description: URL Link1; ComponentLink3URL: http://www.national.com/pf/LP/LP2951.html
footprint M08A_N (SOIC, 8-Leads, Body 4.9x3.9mm, Pitch 1.27mm, IPC Medium Density)
footprint M08A_L (SOIC, 8-Leads, Body 4.9x3.9mm, Pitch 1.27mm, IPC High Density)
footprint M08A_M (SOIC, 8-Leads, Body 4.9x3.9mm, Pitch 1.27mm, IPC Low Density)
3D model M08A (8-Pin Small Outline Integrated Circuit 1.27 mm Pitch)
pins: 1 OUT (power), 2 SEN, 3 SD (in), 4 GND (power), 5 ~{ERR} (oc), 6 5V TAP, 7 FB (in), 8 IN (power)

## LP2951ACM-3.3
designator U?
Series of Adjustable Micropower Voltage Regulator; Published: 15-Apr-2002; LatestRevisionDate: 13-Apr-2006; LatestRevisionNote: IPC-7351 Footprint Added.; DatasheetVersion: May-1999; PackageVersion: Sep-1997; PackageReference: M08A; Publisher: Altium Limited; PackageDescription: 8-Pin Small Outline Integrated Circuit 1.27 mm Pitch; Code_JEDEC: MS-012-AA; Code_IPC: SOIC127P600-8; ComponentLink1Description: Manufacturer Link; ComponentLink1URL: http://www.national.com/; ComponentLink2Description: Datasheet; ComponentLink2URL: http://www.national.com/ds.cgi/LP/LP2950.pdf; ComponentLink3Description: URL Link1; ComponentLink3URL: http://www.national.com/pf/LP/LP2951.html
footprint M08A_N (SOIC, 8-Leads, Body 4.9x3.9mm, Pitch 1.27mm, IPC Medium Density)
footprint M08A_L (SOIC, 8-Leads, Body 4.9x3.9mm, Pitch 1.27mm, IPC High Density)
footprint M08A_M (SOIC, 8-Leads, Body 4.9x3.9mm, Pitch 1.27mm, IPC Low Density)
3D model M08A (8-Pin Small Outline Integrated Circuit 1.27 mm Pitch)
pins: 1 OUT (power), 2 SEN, 3 SD (in), 4 GND (power), 5 ~{ERR} (oc), 6 5V TAP, 7 FB (in), 8 IN (power)

## LP2951ACN
designator U?
Series of Adjustable Micropower Voltage Regulator; Published: 15-Apr-2002; LatestRevisionDate: 06-Jun-2005; LatestRevisionNote: Stylized 3D Model Added.; DatasheetVersion: May-1999; PackageVersion: Sep-1997; PackageReference: N08E; Publisher: Altium Limited; PackageDescription: DIP; 8 Leads; Row Spacing 7.62 mm; Pitch 2.54 mm; ComponentLink1Description: Manufacturer Link; ComponentLink1URL: http://www.national.com/; ComponentLink2Description: Datasheet; ComponentLink2URL: http://www.national.com/ds.cgi/LP/LP2950.pdf; ComponentLink3Description: URL Link1; ComponentLink3URL: http://www.national.com/pf/LP/LP2951.html
footprint N08E (DIP; 8 Leads; Row Spacing 7.62 mm; Pitch 2.54 mm)
3D model N08E (DIP; 8 Leads; Row Spacing 7.62 mm; Pitch 2.54 mm)
pins: 1 OUT (power), 2 SEN, 3 SD (in), 4 GND (power), 5 ~{ERR} (oc), 6 5V TAP, 7 FB (in), 8 IN (power)

## LP2951ACN-3.0
designator U?
Series of Adjustable Micropower Voltage Regulator; Published: 15-Apr-2002; LatestRevisionDate: 06-Jun-2005; LatestRevisionNote: Stylized 3D Model Added.; DatasheetVersion: May-1999; PackageVersion: Sep-1997; PackageReference: N08E; Publisher: Altium Limited; PackageDescription: DIP; 8 Leads; Row Spacing 7.62 mm; Pitch 2.54 mm; ComponentLink1Description: Manufacturer Link; ComponentLink1URL: http://www.national.com/; ComponentLink2Description: Datasheet; ComponentLink2URL: http://www.national.com/ds.cgi/LP/LP2950.pdf; ComponentLink3Description: URL Link1; ComponentLink3URL: http://www.national.com/pf/LP/LP2951.html
footprint N08E (DIP; 8 Leads; Row Spacing 7.62 mm; Pitch 2.54 mm)
3D model N08E (DIP; 8 Leads; Row Spacing 7.62 mm; Pitch 2.54 mm)
pins: 1 OUT (power), 2 SEN, 3 SD (in), 4 GND (power), 5 ~{ERR} (oc), 6 5V TAP, 7 FB (in), 8 IN (power)

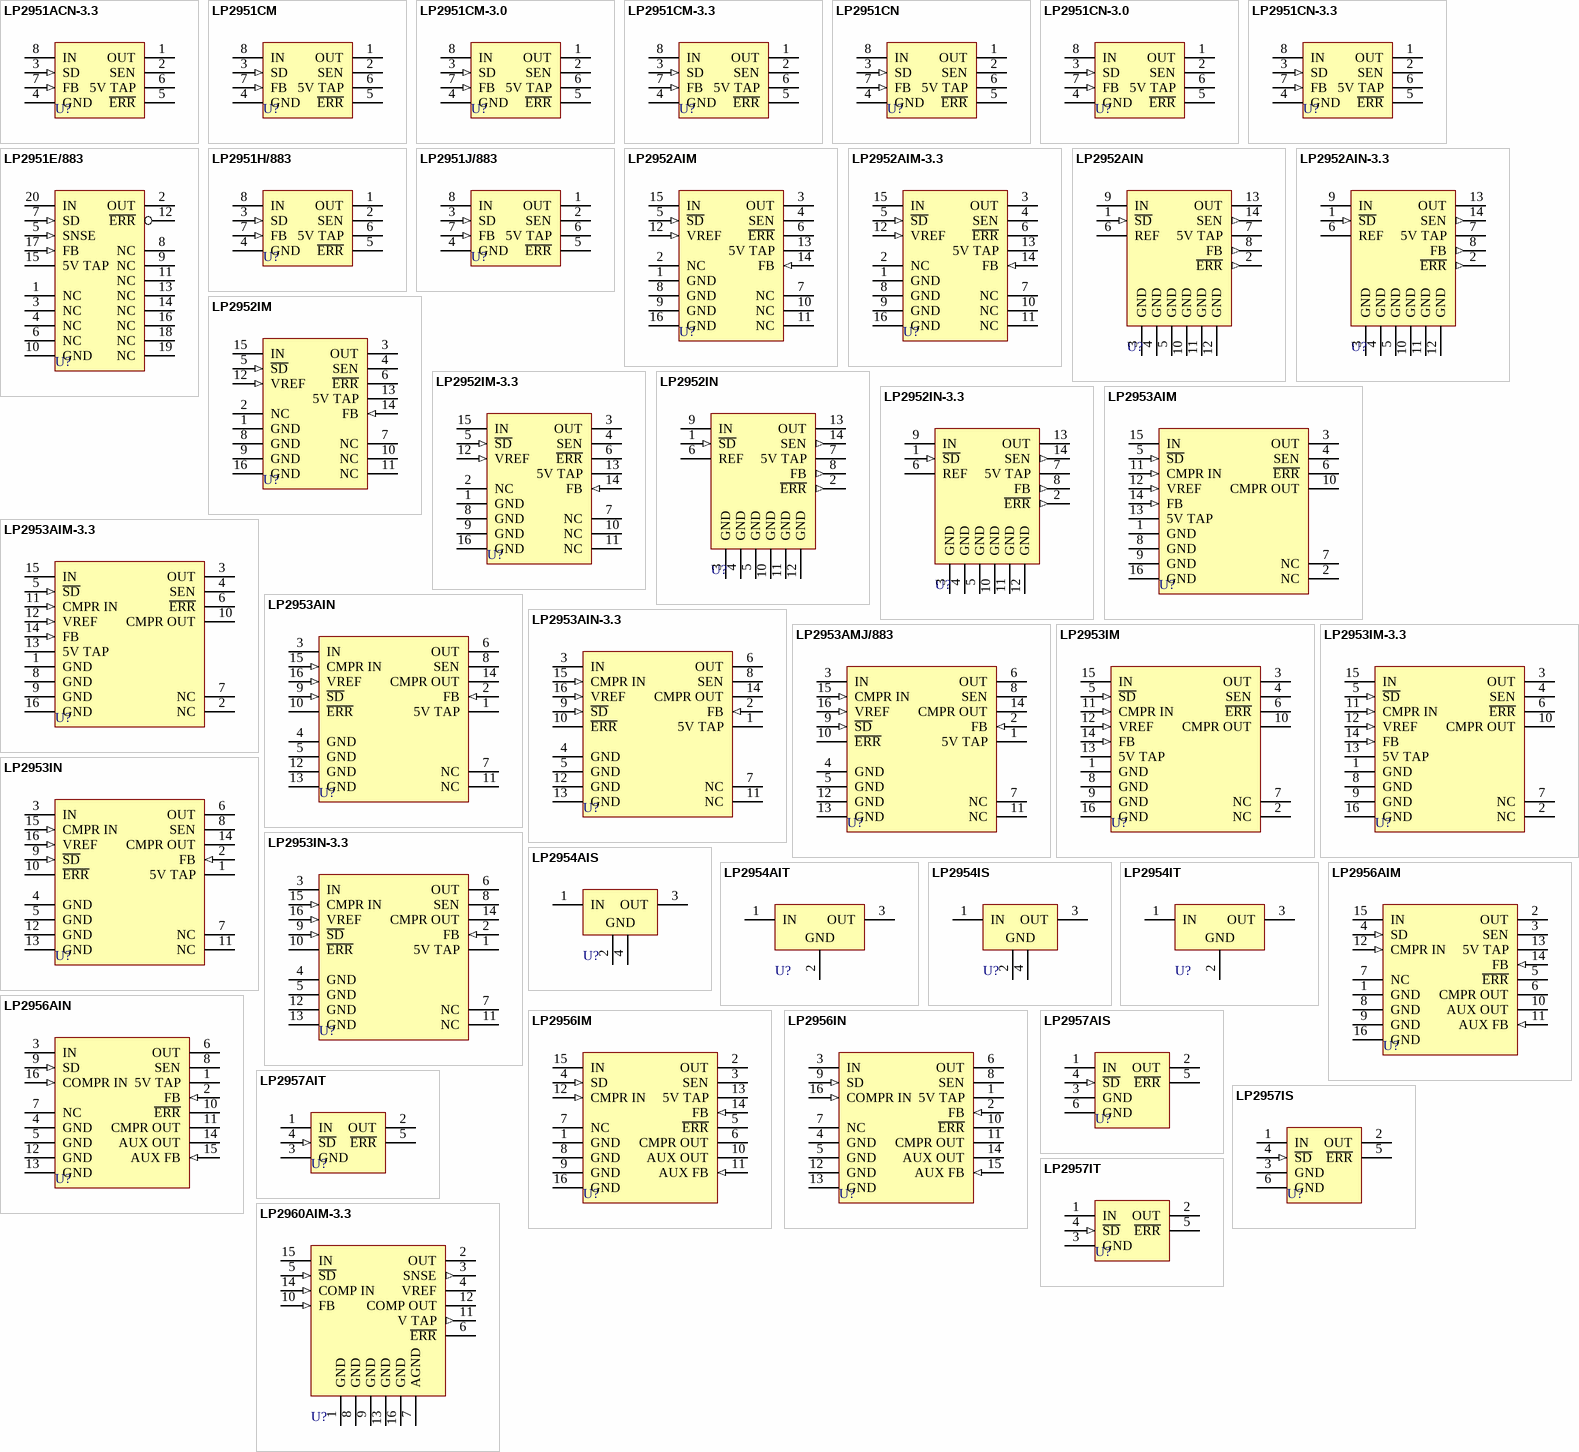
[diagram p6: symbols LP2951ACN-3.3 to LP2960AIM-3.3]

## LP2951ACN-3.3
designator U?
Series of Adjustable Micropower Voltage Regulator; Published: 15-Apr-2002; LatestRevisionDate: 06-Jun-2005; LatestRevisionNote: Stylized 3D Model Added.; DatasheetVersion: May-1999; PackageVersion: Sep-1997; PackageReference: N08E; Publisher: Altium Limited; PackageDescription: DIP; 8 Leads; Row Spacing 7.62 mm; Pitch 2.54 mm; ComponentLink1Description: Manufacturer Link; ComponentLink1URL: http://www.national.com/; ComponentLink2Description: Datasheet; ComponentLink2URL: http://www.national.com/ds.cgi/LP/LP2950.pdf; ComponentLink3Description: URL Link1; ComponentLink3URL: http://www.national.com/pf/LP/LP2951.html
footprint N08E (DIP; 8 Leads; Row Spacing 7.62 mm; Pitch 2.54 mm)
3D model N08E (DIP; 8 Leads; Row Spacing 7.62 mm; Pitch 2.54 mm)
pins: 1 OUT (power), 2 SEN, 3 SD (in), 4 GND (power), 5 ~{ERR} (oc), 6 5V TAP, 7 FB (in), 8 IN (power)

## LP2951CM
designator U?
Series of Adjustable Micropower Voltage Regulator; Published: 15-Apr-2002; LatestRevisionDate: 13-Apr-2006; LatestRevisionNote: IPC-7351 Footprint Added.; DatasheetVersion: May-1999; PackageVersion: Sep-1997; PackageReference: M08A; Publisher: Altium Limited; PackageDescription: 8-Pin Small Outline Integrated Circuit 1.27 mm Pitch; Code_JEDEC: MS-012-AA; Code_IPC: SOIC127P600-8; ComponentLink1Description: Manufacturer Link; ComponentLink1URL: http://www.national.com/; ComponentLink2Description: Datasheet; ComponentLink2URL: http://www.national.com/ds.cgi/LP/LP2950.pdf; ComponentLink3Description: URL Link1; ComponentLink3URL: http://www.national.com/pf/LP/LP2951.html
footprint M08A_N (SOIC, 8-Leads, Body 4.9x3.9mm, Pitch 1.27mm, IPC Medium Density)
footprint M08A_L (SOIC, 8-Leads, Body 4.9x3.9mm, Pitch 1.27mm, IPC High Density)
footprint M08A_M (SOIC, 8-Leads, Body 4.9x3.9mm, Pitch 1.27mm, IPC Low Density)
3D model M08A (8-Pin Small Outline Integrated Circuit 1.27 mm Pitch)
pins: 1 OUT (power), 2 SEN, 3 SD (in), 4 GND (power), 5 ~{ERR} (oc), 6 5V TAP, 7 FB (in), 8 IN (power)

## LP2951CM-3.0
designator U?
Series of Adjustable Micropower Voltage Regulator; Published: 15-Apr-2002; LatestRevisionDate: 13-Apr-2006; LatestRevisionNote: IPC-7351 Footprint Added.; DatasheetVersion: May-1999; PackageVersion: Sep-1997; PackageReference: M08A; Publisher: Altium Limited; PackageDescription: 8-Pin Small Outline Integrated Circuit 1.27 mm Pitch; Code_JEDEC: MS-012-AA; Code_IPC: SOIC127P600-8; ComponentLink1Description: Manufacturer Link; ComponentLink1URL: http://www.national.com/; ComponentLink2Description: Datasheet; ComponentLink2URL: http://www.national.com/ds.cgi/LP/LP2950.pdf; ComponentLink3Description: URL Link1; ComponentLink3URL: http://www.national.com/pf/LP/LP2951.html
footprint M08A_N (SOIC, 8-Leads, Body 4.9x3.9mm, Pitch 1.27mm, IPC Medium Density)
footprint M08A_L (SOIC, 8-Leads, Body 4.9x3.9mm, Pitch 1.27mm, IPC High Density)
footprint M08A_M (SOIC, 8-Leads, Body 4.9x3.9mm, Pitch 1.27mm, IPC Low Density)
3D model M08A (8-Pin Small Outline Integrated Circuit 1.27 mm Pitch)
pins: 1 OUT (power), 2 SEN, 3 SD (in), 4 GND (power), 5 ~{ERR} (oc), 6 5V TAP, 7 FB (in), 8 IN (power)

## LP2951CM-3.3
designator U?
Series of Adjustable Micropower Voltage Regulator; Published: 15-Apr-2002; LatestRevisionDate: 13-Apr-2006; LatestRevisionNote: IPC-7351 Footprint Added.; DatasheetVersion: May-1999; PackageVersion: Sep-1997; PackageReference: M08A; Publisher: Altium Limited; PackageDescription: 8-Pin Small Outline Integrated Circuit 1.27 mm Pitch; Code_JEDEC: MS-012-AA; Code_IPC: SOIC127P600-8; ComponentLink1Description: Manufacturer Link; ComponentLink1URL: http://www.national.com/; ComponentLink2Description: Datasheet; ComponentLink2URL: http://www.national.com/ds.cgi/LP/LP2950.pdf; ComponentLink3Description: URL Link1; ComponentLink3URL: http://www.national.com/pf/LP/LP2951.html
footprint M08A_N (SOIC, 8-Leads, Body 4.9x3.9mm, Pitch 1.27mm, IPC Medium Density)
footprint M08A_L (SOIC, 8-Leads, Body 4.9x3.9mm, Pitch 1.27mm, IPC High Density)
footprint M08A_M (SOIC, 8-Leads, Body 4.9x3.9mm, Pitch 1.27mm, IPC Low Density)
3D model M08A (8-Pin Small Outline Integrated Circuit 1.27 mm Pitch)
pins: 1 OUT (power), 2 SEN, 3 SD (in), 4 GND (power), 5 ~{ERR} (oc), 6 5V TAP, 7 FB (in), 8 IN (power)

## LP2951CN
designator U?
Series of Adjustable Micropower Voltage Regulator; Published: 15-Apr-2002; LatestRevisionDate: 06-Jun-2005; LatestRevisionNote: Stylized 3D Model Added.; DatasheetVersion: May-1999; PackageVersion: Sep-1997; PackageReference: N08E; Publisher: Altium Limited; PackageDescription: DIP; 8 Leads; Row Spacing 7.62 mm; Pitch 2.54 mm; ComponentLink1Description: Manufacturer Link; ComponentLink1URL: http://www.national.com/; ComponentLink2Description: Datasheet; ComponentLink2URL: http://www.national.com/ds.cgi/LP/LP2950.pdf; ComponentLink3Description: URL Link1; ComponentLink3URL: http://www.national.com/pf/LP/LP2951.html
footprint N08E (DIP; 8 Leads; Row Spacing 7.62 mm; Pitch 2.54 mm)
3D model N08E (DIP; 8 Leads; Row Spacing 7.62 mm; Pitch 2.54 mm)
pins: 1 OUT (power), 2 SEN, 3 SD (in), 4 GND (power), 5 ~{ERR} (oc), 6 5V TAP, 7 FB (in), 8 IN (power)

## LP2951CN-3.0
designator U?
Series of Adjustable Micropower Voltage Regulator; Published: 15-Apr-2002; LatestRevisionDate: 06-Jun-2005; LatestRevisionNote: Stylized 3D Model Added.; DatasheetVersion: May-1999; PackageVersion: Sep-1997; PackageReference: N08E; Publisher: Altium Limited; PackageDescription: DIP; 8 Leads; Row Spacing 7.62 mm; Pitch 2.54 mm; ComponentLink1Description: Manufacturer Link; ComponentLink1URL: http://www.national.com/; ComponentLink2Description: Datasheet; ComponentLink2URL: http://www.national.com/ds.cgi/LP/LP2950.pdf; ComponentLink3Description: URL Link1; ComponentLink3URL: http://www.national.com/pf/LP/LP2951.html
footprint N08E (DIP; 8 Leads; Row Spacing 7.62 mm; Pitch 2.54 mm)
3D model N08E (DIP; 8 Leads; Row Spacing 7.62 mm; Pitch 2.54 mm)
pins: 1 OUT (power), 2 SEN, 3 SD (in), 4 GND (power), 5 ~{ERR} (oc), 6 5V TAP, 7 FB (in), 8 IN (power)

## LP2951CN-3.3
designator U?
Series of Adjustable Micropower Voltage Regulator; Published: 15-Apr-2002; LatestRevisionDate: 06-Jun-2005; LatestRevisionNote: Stylized 3D Model Added.; DatasheetVersion: May-1999; PackageVersion: Sep-1997; PackageReference: N08E; Publisher: Altium Limited; PackageDescription: DIP; 8 Leads; Row Spacing 7.62 mm; Pitch 2.54 mm; ComponentLink1Description: Manufacturer Link; ComponentLink1URL: http://www.national.com/; ComponentLink2Description: Datasheet; ComponentLink2URL: http://www.national.com/ds.cgi/LP/LP2950.pdf; ComponentLink3Description: URL Link1; ComponentLink3URL: http://www.national.com/pf/LP/LP2951.html
footprint N08E (DIP; 8 Leads; Row Spacing 7.62 mm; Pitch 2.54 mm)
3D model N08E (DIP; 8 Leads; Row Spacing 7.62 mm; Pitch 2.54 mm)
pins: 1 OUT (power), 2 SEN, 3 SD (in), 4 GND (power), 5 ~{ERR} (oc), 6 5V TAP, 7 FB (in), 8 IN (power)

## LP2951E/883
designator U?
Series of Adjustable Micropower Voltage Regulator; Published: 15-Apr-2002; DatasheetVersion: Sep-1998; PackageVersion: 2000; PackageReference: E20A; Publisher: Altium Limited; PackageDescription: Leadless Chip Carrier; 20 Terminals; Body 8.9 x 8.9 mm; ComponentLink1Description: Manufacturer Link; ComponentLink1URL: http://www.national.com/
footprint E20A (Leadless Chip Carrier; 20 Terminals; Body 8.9 x 8.9 mm)
pins: 1 NC, 2 OUT (power), 3 NC, 4 NC, 5 SNSE (in), 6 NC, 7 SD (in), 8 NC, 9 NC, 10 GND (power), 11 NC, 12 ~{ERR} (oc), 13 NC, 14 NC, 15 5V TAP, 16 NC, 17 FB (in), 18 NC, 19 NC, 20 IN (power)

## LP2951H/883
designator U?
Series of Adjustable Micropower Voltage Regulator; Published: 15-Apr-2002; DatasheetVersion: May-1999; PackageVersion: 2000; PackageReference: H08C; Publisher: Altium Limited; PackageDescription: Can; 8 Leads; Pin Circle Dia. 5.08 mm; Lead Dia. 0.48 mm (max); ComponentLink1Description: Manufacturer Link; ComponentLink1URL: http://www.national.com/; ComponentLink2Description: Datasheet; ComponentLink2URL: http://www.national.com/ds.cgi/LP/LP2950.pdf; ComponentLink3Description: URL Link1; ComponentLink3URL: http://www.national.com/pf/LP/LP2951.html
footprint H08C (Can; 8 Leads; Pin Circle Dia. 5.08 mm; Lead Dia. 0.48 mm (max))
pins: 1 OUT (power), 2 SEN, 3 SD (in), 4 GND (power), 5 ~{ERR} (oc), 6 5V TAP, 7 FB (in), 8 IN (power)

## LP2951J/883
designator U?
Series of Adjustable Micropower Voltage Regulator; Published: 15-Apr-2002; LatestRevisionDate: 06-Jun-2005; LatestRevisionNote: Stylized 3D Model Added.; DatasheetVersion: May-1999; PackageVersion: 2000; PackageReference: J08A; Publisher: Altium Limited; PackageDescription: DIP; 8 Leads; Row Spacing 7.62 mm; Pitch 2.54 mm; ComponentLink1Description: Manufacturer Link; ComponentLink1URL: http://www.national.com/; ComponentLink2Description: Datasheet; ComponentLink2URL: http://www.national.com/ds.cgi/LP/LP2950.pdf; ComponentLink3Description: URL Link1; ComponentLink3URL: http://www.national.com/pf/LP/LP2951.html
footprint J08A (DIP; 8 Leads; Row Spacing 7.62 mm; Pitch 2.54 mm)
3D model N08E (DIP; 8 Leads; Row Spacing 7.62 mm; Pitch 2.54 mm)
pins: 1 OUT (power), 2 SEN, 3 SD (in), 4 GND (power), 5 ~{ERR} (oc), 6 5V TAP, 7 FB (in), 8 IN (power)

## LP2952AIM
designator U?
Adjustable Micropower Low-Dropout Voltage Regulator; Published: 15-Apr-2002; LatestRevisionDate: 13-Apr-2006; LatestRevisionNote: IPC-7351 Footprint Added.; DatasheetVersion: May-1999; PackageVersion: 2000; PackageReference: M16A; Publisher: Altium Limited; PackageDescription: 16-Pin Small Outline Integrated Circuit 1.27 mm Pitch; Code_IPC: SOIC127P600-16; ComponentLink1Description: Manufacturer Link; ComponentLink1URL: http://www.national.com/; ComponentLink2Description: Datasheet; ComponentLink2URL: http://www.national.com/ds.cgi/LP/LP2952.pdf; ComponentLink3Description: URL Link1; ComponentLink3URL: http://www.national.com/pf/LP/LP2952.html
footprint M16A_N (SOIC, 16-Leads, Body 9.9x3.9mm, Pitch 1.27mm, IPC Medium Density)
footprint M16A_L (SOIC, 16-Leads, Body 9.9x3.9mm, Pitch 1.27mm, IPC High Density)
footprint M16A_M (SOIC, 16-Leads, Body 9.9x3.9mm, Pitch 1.27mm, IPC Low Density)
3D model M16A (16-Pin Small Outline Integrated Circuit 1.27 mm Pitch)
pins: 1 GND (power), 2 NC, 3 OUT (power), 4 SEN, 5 ~{SD} (in), 6 ~{ERR} (oc), 7 NC, 8 GND (power), 9 GND (power), 10 NC, 11 NC, 12 VREF (in), 13 5V TAP, 14 FB (in), 15 IN (power), 16 GND (power)

## LP2952AIM-3.3
designator U?
Adjustable Micropower Low-Dropout Voltage Regulator; Published: 15-Apr-2002; LatestRevisionDate: 13-Apr-2006; LatestRevisionNote: IPC-7351 Footprint Added.; DatasheetVersion: May-1999; PackageVersion: 2000; PackageReference: M16A; Publisher: Altium Limited; PackageDescription: 16-Pin Small Outline Integrated Circuit 1.27 mm Pitch; Code_IPC: SOIC127P600-16; ComponentLink1Description: Manufacturer Link; ComponentLink1URL: http://www.national.com/; ComponentLink2Description: Datasheet; ComponentLink2URL: http://www.national.com/ds.cgi/LP/LP2952.pdf; ComponentLink3Description: URL Link1; ComponentLink3URL: http://www.national.com/pf/LP/LP2952.html
footprint M16A_N (SOIC, 16-Leads, Body 9.9x3.9mm, Pitch 1.27mm, IPC Medium Density)
footprint M16A_L (SOIC, 16-Leads, Body 9.9x3.9mm, Pitch 1.27mm, IPC High Density)
footprint M16A_M (SOIC, 16-Leads, Body 9.9x3.9mm, Pitch 1.27mm, IPC Low Density)
3D model M16A (16-Pin Small Outline Integrated Circuit 1.27 mm Pitch)
pins: 1 GND (power), 2 NC, 3 OUT (power), 4 SEN, 5 ~{SD} (in), 6 ~{ERR} (oc), 7 NC, 8 GND (power), 9 GND (power), 10 NC, 11 NC, 12 VREF (in), 13 5V TAP, 14 FB (in), 15 IN (power), 16 GND (power)

## LP2952AIN
designator U?
Adjustable Micropower Low-Dropout Voltage Regulator; Published: 15-Apr-2002; LatestRevisionDate: 06-Jun-2005; LatestRevisionNote: Stylized 3D Model Added.; DatasheetVersion: May-1999; PackageVersion: 2000; PackageReference: N14A; Publisher: Altium Limited; PackageDescription: DIP; 14 Leads; Row Spacing 7.62 mm; Pitch 2.54 mm; ComponentLink1Description: Manufacturer Link; ComponentLink1URL: http://www.national.com/; ComponentLink2Description: Datasheet; ComponentLink2URL: http://www.national.com/ds.cgi/LP/LP2952.pdf; ComponentLink3Description: URL Link1; ComponentLink3URL: http://www.national.com/pf/LP/LP2952.html
footprint N14A (DIP; 14 Leads; Row Spacing 7.62 mm; Pitch 2.54 mm)
3D model N14A (DIP; 14 Leads; Row Spacing 7.62 mm; Pitch 2.54 mm)
pins: 1 ~{SD} (in), 2 ~{ERR} (out), 3 GND (power), 4 GND (power), 5 GND (power), 6 REF (power), 7 5V TAP (power), 8 FB (out), 9 IN (power), 10 GND (power), 11 GND (power), 12 GND (power), 13 OUT (power), 14 SEN (out)